# Altium schematic symbol library TPS543xx_family.SchLib: 3 symbols
Pins are listed as number, name and electrical type; pins without a type are passive.

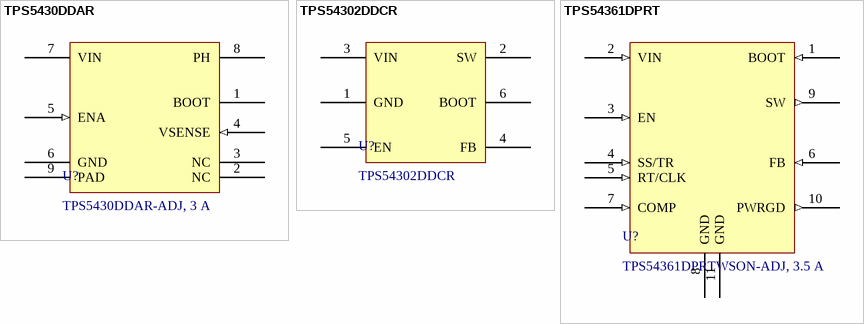
[diagram p0: symbols TPS5430DDAR to TPS54361DPRT]

## TPS5430DDAR
designator U?, comment TPS5430DDAR-ADJ, 3 A
5.5V to 36V Input, 3A, 500kHz Step-Down Converter; Manufacturer: Texas Instruments; Number of Outputs: 1; Voltage Output: 1.22V - 32V; Package / Case: WSON-10; Output Current: 3 A; Supplier 1 URL: https://www.mouser.com/ProductDetail/Texas-Instruments/TPS5430DDAR?qs=zwk82MlA57ZJdOTovH1aYA%3D%3D; Supplier 2 URL: https://www.digikey.com/en/products/detail/texas-instruments/tps5430ddar/1671816; Supplier 3 URL: https://www.thegioiic.com/tps5430dda-ic-dieu-chinh-giam-ap-3a-8-soic; Value: TPS5430DDAR-ADJ, 3 A; Voltage Input Maximum: 36V; Voltage Input Minimum: 5.5V; Switching Frequency: 500 kHz; Manufacturer Part Number: TPS5430DDAR; Mount: SMD/SMT; Operating Temperature Max: + 85 C; Operating Temperature Min: - 40 C; Packaging: Tape and Reel; Supplier 1: Mouser; Supplier 1 Part Number: 595-TPS5430DDAR; Supplier 2: Digi-Key; Supplier 2 Part Number: 296-26988-2-ND; Supplier 3: thegioiic; Supplier 3 Part Number: TPS5430DDA; ComponentLink1Description: Datasheet; ComponentLink1URL: https://www.ti.com/lit/gpn/TPS5430; LCSC Part #: C9864
footprint TPS5430DDAR (SOP, 8-Leads, Body 4.90x3.90mm, Pitch 1.27mm, Thermal Pad 3.10x2.60mm, IPC Medium Density)
footprint TPS5430DDAR - BIG_VIA (SOP, 8-Leads, Body 4.90x3.90mm, Pitch 1.27mm, Thermal Pad 3.10x2.60mm, IPC Medium Density)
pins: 1 BOOT, 2 NC, 3 NC, 4 VSENSE (in), 5 ENA (in), 6 GND (power), 7 VIN (power), 8 PH (power), 9 PAD (power)

## TPS54302DDCR
designator U?
Switching Voltage Regulators 4.5-V to 28-V Input, 3-A Output, EMI Friendly Synchronous Step-Down Converter 6-SOT-23-THIN -40 to 125; Manufacturer: Texas Instruments; Number of Outputs: 1; Output Current: 3 A; Voltage Input Maximum: 28V; Voltage Input Minimum: 4.5V; Voltage Output: 0.6V - 28V; Switching Frequency: 500 kHz; Package / Case: SOT-23-Thin-6; Supplier 1 URL: https://www.mouser.com/ProductDetail/Texas-Instruments/TPS54302DDCR?qs=zEmsApcVOkUXM7UP0GSO2g%3D%3D; Supplier 2 URL: https://www.digikey.com/en/products/detail/texas-instruments/tps54302ddcr/6572466; Supplier 3 URL: N/A; Value: TPS54302DDCR; Manufacturer Part Number: TPS54302DDCR; Mount: SMD/SMT; Operating Temperature Max: + 125 C; Operating Temperature Min: - 40 C; Packaging: Tape and Reel; Supplier 1: Mouser; Supplier 1 Part Number: 595-TPS54302DDCR; Supplier 2: Digi-Key; Supplier 2 Part Number: 296-46237-2-ND; Supplier 3: thegioiic; Supplier 3 Part Number: N/A; ComponentLink1Description: Datasheet; ComponentLink1URL: https://www.ti.com/lit/gpn/tps54302; LCSC Part #: C311983
footprint TPS54302DDCR (SOT23, 6-Leads, Body 2.90x2.80mm, Pitch 0.95mm, IPC Medium Density)
pins: 1 GND, 2 SW, 3 VIN, 4 FB, 5 EN, 6 BOOT

## TPS54361DPRT
designator U?, comment TPS54361DPRTWSON-ADJ, 3.5 A
Switching Voltage Regulators, 800 mV to 59 V output; Manufacturer: Texas Instruments; Number of Outputs: 1; Output Current: 3.5 A; Voltage Input Maximum: 60V; Voltage Input Minimum: 4.5V; Voltage Output: 0.8V - 59V; Switching Frequency: 500 kHz; Package / Case: WSON-10; Supplier 1 URL: https://www.mouser.vn/ProductDetail/Texas-Instruments/TPS54361DPRT?qs=wrT8kFYR778NnxU7eySXLw%3D%3D; Supplier 2 URL: https://www.digikey.com/en/products/detail/texas-instruments/TPS54361DPRT/4695367?s=N4IgTCBcDaICoAUDKBWALAZgGwEYAiCASnCALoC%2BQA; Supplier 3 URL: N/A; Value: TPS54361DPRTWSON-ADJ, 3.5 A; Manufacturer Part Number: TPS54361DPRT; Mount: SMD/SMT; Operating Temperature Max: + 85 C; Operating Temperature Min: - 40 C; Packaging: Tape and Reel; Supplier 1: Mouser; Supplier 1 Part Number: 595-TPS54361DPRT; Supplier 2: Digi-Key; Supplier 2 Part Number: 296-37248-2-ND; Supplier 3: thegioiic; Supplier 3 Part Number: N/A; ComponentLink1Description: Datasheet; ComponentLink1URL: https://www.ti.com/general/docs/suppproductinfo.tsp?distId=10&gotoUrl=https%3A%2F%2Fwww.ti.com%2Flit%2Fgpn%2Ftps54361; LCSC Part #: N/A
footprint TPS54361DPRT
pins: 1 BOOT (in), 2 VIN (in), 3 EN (in), 4 SS/TR  (in), 5 RT/CLK  (in), 6 FB (in), 7 COMP (in), 8 GND (power), 9 SW (out), 10 PWRGD (out), 11 GND (power)